# Altium schematic symbol library TL494.SchLib: 1 symbol
Pins are listed as number, name and electrical type; pins without a type are passive.

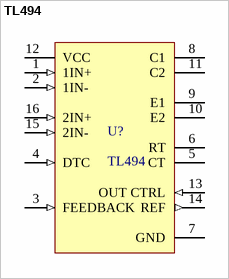
[diagram p0: symbol TL494]

## TL494
designator U?
TL494 Pwm controller
footprint SOIC-16-L
footprint SOIC-16-M
footprint SOIC-16-N
pins: 1 1IN+ (in), 2 1IN- (in), 3 FEEDBACK (in), 4 DTC (in), 5 CT, 6 RT, 7 GND (power), 8 C1, 9 E1, 10 E2, 11 C2, 12 VCC (power), 13 OUT CTRL (in), 14 REF (out), 15 2IN- (in), 16 2IN+ (in)